# Altium footprint library LQH3NPH560MMEL.PcbLib: 1 footprints
Each footprint in its own frame and in the unit in brackets; x right, y up, seen from the top. Pads: shape width x height; smd on the part's side, far side on the other; paste and mask are expansions set on the pad; w line width, h text height; cw(c..) or ccw(c..) is an arc to the next point about the centre after c.
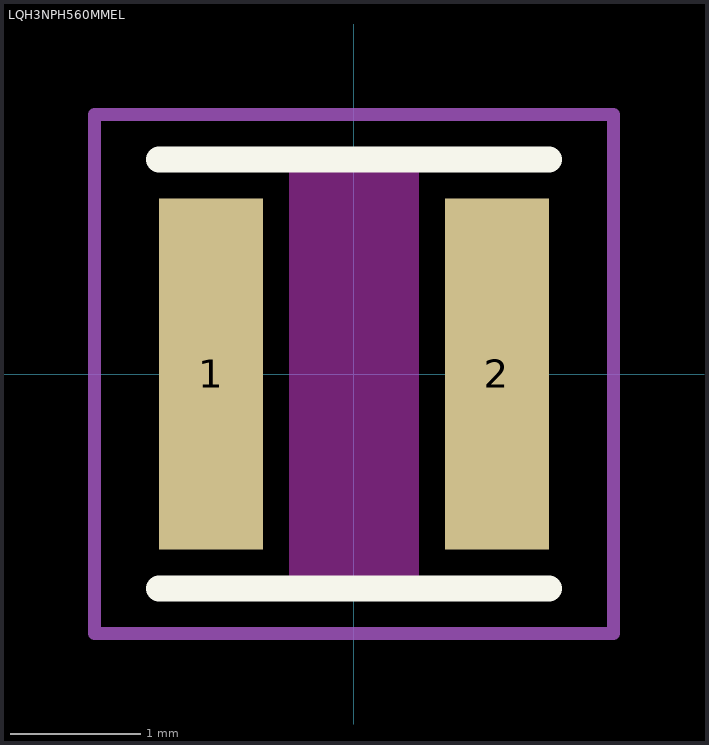
[diagram p0: the footprint, top view; thin cyan lines are the x and y axes]

## LQH3NPH560MMEL [mm]
pads (2):
  rect 0.8x2.7 smd: 1(-1.1,0) 2(1.1,0)
Top Layer keep-out:
  rectangle: -0.5,-1.65 0.5,1.64
Top Overlay:
  lines w0.2: -1.5,-1.65 1.5,-1.65 ; -1.5,1.65 1.5,1.65
Top Courtyard:
  lines w0.1: -2,-2 1.5,-2 2,-2 2,2 -2,2 -2,1.5 -2,-1.5 -2,-2
3D body "LQH3NPH560MMEL.STEP": height 1.5, standoff 0, extent -1.5,-1.5 1.5,1.5